# EAGLE library part MP8110 (library CARA)
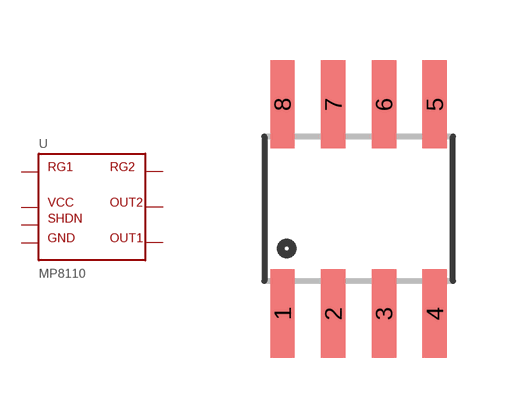
[diagram p9: symbol with the pads of SOIC8; footprint SOIC8]

Designator prefix U

## MP8110SSOP  [SOIC8]
1  SHDN
3  RG1
4  GND
5  OUT1
6  RG2
7  VCC
8  OUT2

## Footprint SOIC8 (pad centres in mm)
smd 0.61 x 2.21: 1 -1.905,-2.616; 2 -0.635,-2.616; 3 0.635,-2.616; 4 1.905,-2.616; 5 1.905,2.616; 6 0.635,2.616; 7 -0.635,2.616; 8 -1.905,2.616